# Altium footprint library SMD Transistors.PcbLib: 18 footprints (part 2 of 2)
Each footprint in its own frame and in the unit in brackets; x right, y up, seen from the top. Pads: shape width x height; smd on the part's side, far side on the other; paste and mask are expansions set on the pad; w line width, h text height; cw(c..) or ccw(c..) is an arc to the next point about the centre after c.
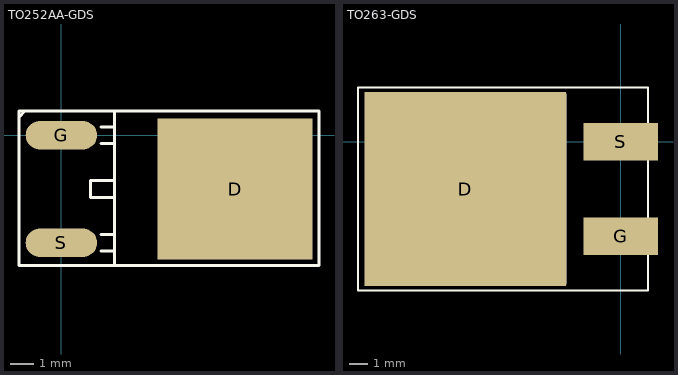
[diagram p1: the footprints below, top view; thin cyan lines are the x and y axes]

## TO252AA-GDS [mm]
pads (3):
  rect 6.5x5.9 smd: D(7.275,-2.25)
  oval 3x1.2 smd: G(0,0) S(0,-4.5)
Top Overlay:
  lines w0.127: -1.778,0.762 -1.524,1.016 ; 1.65,-4.85 2.225,-4.85 ; 1.65,-4.15 2.225,-4.15 ; 2.225,-5.45 2.225,0.95 ; 2.225,-2.6 1.225,-2.6 1.225,-1.9 2.225,-1.9 ; -1.778,-5.461 10.795,-5.461 10.795,1.016 -1.778,1.016 -1.778,-5.461 ; 1.65,-0.35 2.225,-0.35 1.65,-0.35 ; 1.65,0.35 2.225,0.35 1.65,0.35
3D body: height 2.41, standoff 0, extent -0.324,-5.505 9.614,1.035

## TO263-GDS [mm]
pads (3):
  rect 10.795x10.414 smd: D(-8.331,-2.54)
  rect 4x2 smd: G(0,-5.08) S(0,0)
Top Overlay:
  lines w0.102: -11.252,-7.62 -11.252,2.54 ; -10.871,-7.62 -10.871,2.54 ; -14.072,-7.976 1.473,-7.976 1.473,2.896 -14.072,2.896 -14.072,-7.976 ; -12.852,-6.02 -12.268,-7.62 -2.946,-7.62 -2.946,2.54 -12.268,2.54 -12.852,0.94 -12.852,-6.02
3D body: height 3.81, standoff 1.27, extent -10.846,-7.62 -2.946,2.54
3D body: height 2.57, standoff 0, extent -8.153,-7.62 -5.944,-6.782
3D body: height 2.54, standoff 0, extent -10.846,-7.62 -2.946,2.54
3D body: height 0.51, standoff 0, extent -1.067,-0.737 0.635,0.787
3D body: height 1.27, standoff 0, extent -12.852,-7.671 -10.846,2.54